# Altium footprint library MPX_____.PcbLib: 19 footprints (part 1 of 2)
Each footprint in its own frame and in the unit in brackets; x right, y up, seen from the top. Pads: shape width x height; smd on the part's side, far side on the other; paste and mask are expansions set on the pad; w line width, h text height; cw(c..) or ccw(c..) is an arc to the next point about the centre after c.
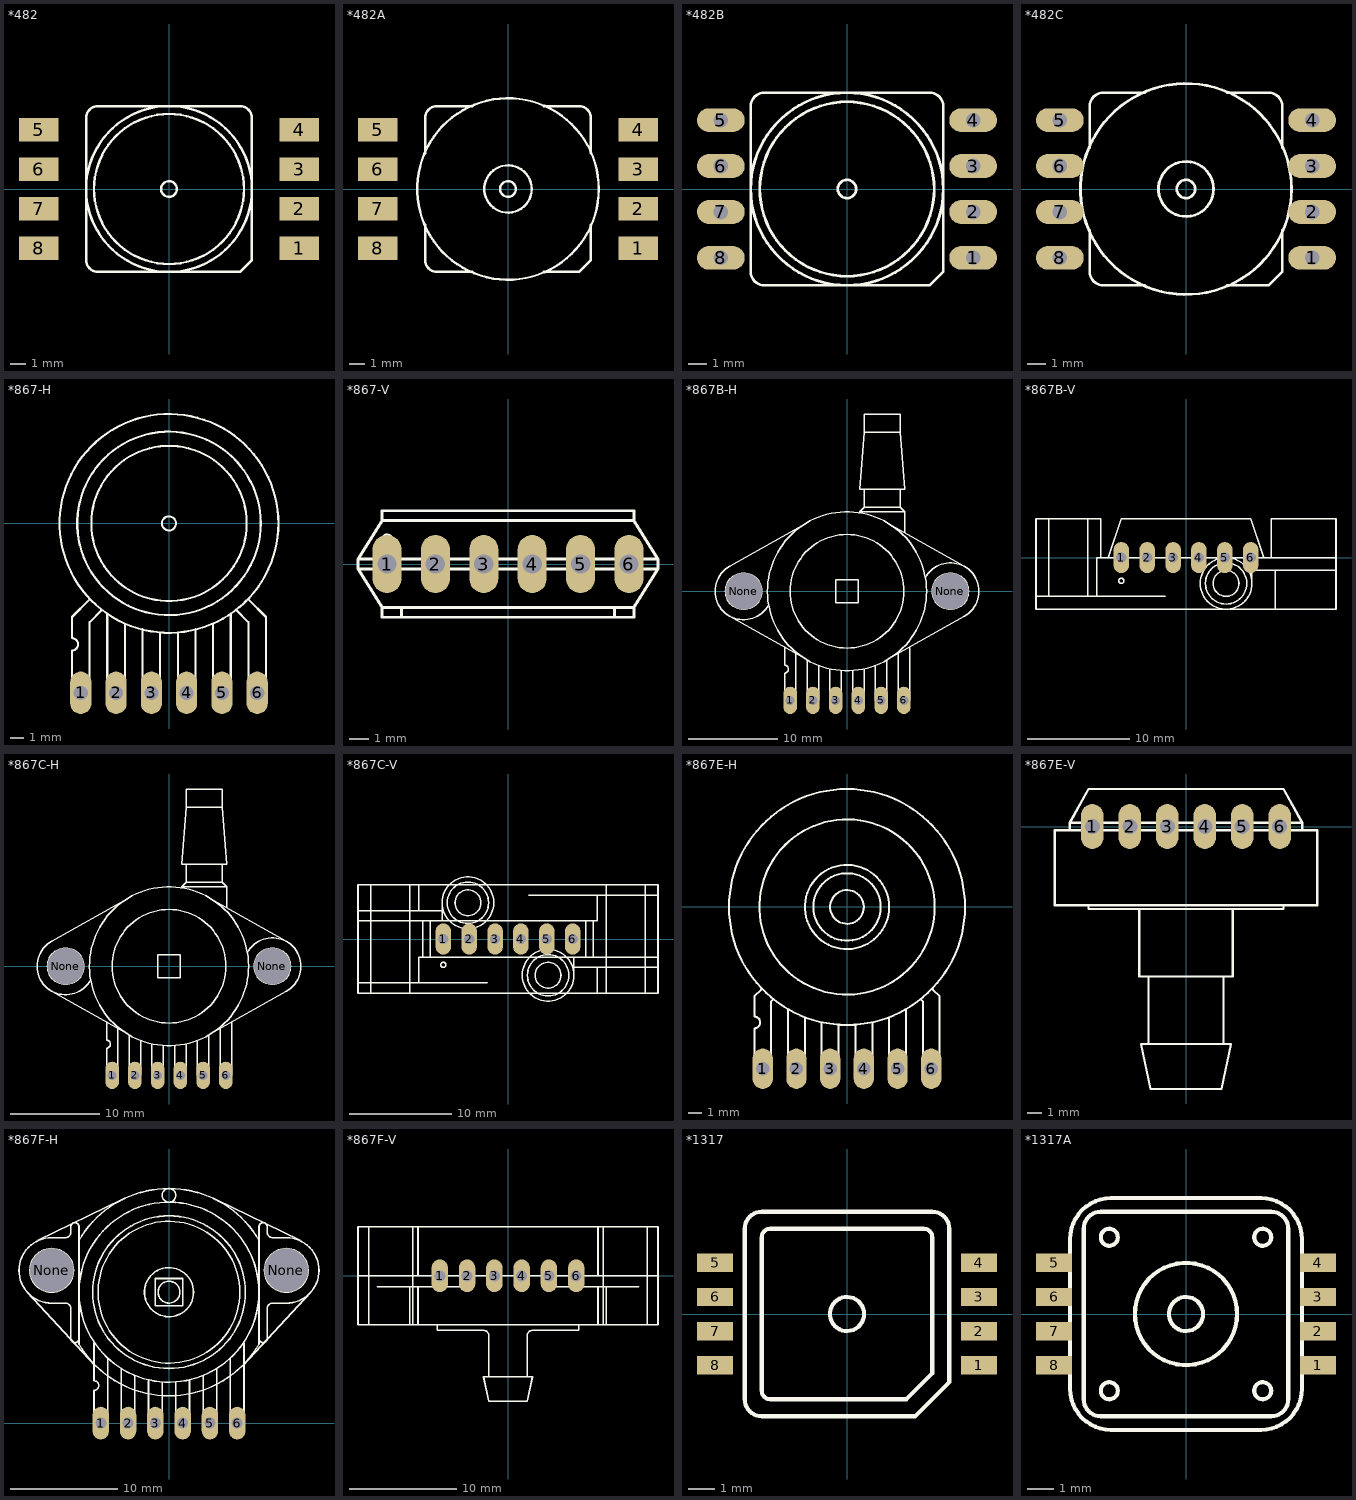
[diagram p0: the footprints below, top view; thin cyan lines are the x and y axes]

## *482 [mil]
pads (8):
  rect 100x60 smd: 1(330,-150) 2(330,-50) 3(330,50) 4(330,150) 5(-330,150) 6(-330,50) 7(-330,-50) 8(-330,-150)
Top Overlay:
  circle w6: c0,0 r190
  circle w6: c0,0 r20
  circle w6: c0,0 r210
  lines w6: -210,-180 ccw(c-180,-180) -180,-210 180,-210 210,-180 210,180 ccw(c180,180) 180,210 -180,210 ccw(c-180,180) -210,180 -210,-180

## *482A [mil]
pads (8):
  rect 100x60 smd: 1(330,-150) 2(330,-50) 3(330,50) 4(330,150) 5(-330,150) 6(-330,50) 7(-330,-50) 8(-330,-150)
Top Overlay:
  circle w6: c0,0 r20
  circle w6: c0,0 r230
  circle w6: c0,0 r60
  lines w6: -210,-90 -210,-180 ccw(c-180,-180) -180,-210 -90,-210 ; -210,90 -210,180 cw(c-180,180) -180,210 -90,210 ; 90,-210 180,-210 210,-180 210,-90 ; 90,210 180,210 cw(c180,180) 210,180 210,90

## *482B [mil]
pads (8):
  oval 104x52 hole 32: 1(275,-150) 2(275,-50) 3(275,50) 4(275,150) 5(-275,150) 6(-275,50) 7(-275,-50) 8(-275,-150)
Top Overlay:
  circle w6: c0,0 r210
  circle w6: c0,0 r20
  circle w6: c0,0 r190
  lines w6: -210,-180 ccw(c-180,-180) -180,-210 180,-210 210,-180 210,180 ccw(c180,180) 180,210 -180,210 ccw(c-180,180) -210,180 -210,-180

## *482C [mil]
pads (8):
  oval 104x52 hole 32: 1(275,-150) 2(275,-50) 3(275,50) 4(275,150) 5(-275,150) 6(-275,50) 7(-275,-50) 8(-275,-150)
Top Overlay:
  circle w6: c0,0 r20
  circle w6: c0,0 r230
  circle w6: c0,0 r60
  lines w6: -210,-90 -210,-180 ccw(c-180,-180) -180,-210 -90,-210 ; -210,90 -210,180 cw(c-180,180) -180,210 -90,210 ; 90,-210 180,-210 210,-180 210,-90 ; 90,210 180,210 cw(c180,180) 210,180 210,90

## *867-H [mil]
pads (6):
  oval 60x120 hole 40: 1(-250,-480) 2(-150,-480) 3(-50,-480) 4(50,-480) 5(150,-480) 6(250,-480)
Top Overlay:
  circle w6: c0,0 r310
  circle w6: c0,0 r260
  circle w6: c0,0 r20
  circle w6: c0,0 r220
  lines w6: -225,-215 -275,-265 -275,-325 cw(c-275,-342.5) -275,-360 -275,-480 -225,-480 -225,-280 -190,-245 ; -175,-255 -175,-480 -125,-480 -125,-285 ; -75,-300 -75,-480 -25,-480 -25,-310 ; 25,-310 25,-480 75,-480 75,-300 ; 125,-285 125,-480 175,-480 175,-255 ; 190,-245 225,-280 225,-480 275,-480 275,-265 225,-215

## *867-V [mil]
pads (6):
  oval 60x120 hole 40: 1(-250,0) 2(-150,0) 3(-50,0) 4(50,0) 5(150,0) 6(250,0)
Top Overlay:
  circle w6: c-250,50 r10
  lines w6: -310,-10 -310,10 ; -310,-10 310,-10 ; -310,-10 -260,-90 ; -310,10 310,10 ; -310,10 -260,90 ; -260,-90 -260,-110 -220,-110 ; -260,-90 -220,-90 ; -260,90 -260,110 260,110 260,90 ; -260,90 260,90 ; -220,-110 220,-110 ; -220,-110 -220,-90 ; -220,-90 220,-90 ; 220,-110 260,-110 260,-90 ; 220,-110 220,-90 ; 220,-90 260,-90 ; 260,-90 310,-10 ; 260,90 310,10 ; 310,-10 310,10

## *867B-H [mil]
pads (8):
  oval 60x120 hole 40: 1(-250,-480) 2(-150,-480) 3(-50,-480) 4(50,-480) 5(150,-480) 6(250,-480)
  round 160 hole 160 unplated: None(-455,0) None(455,0)
Top Overlay:
  circle w6: c-455,0 r80
  circle w6: c455,0 r80
  lines w6: -515.75,109.59 ccw(c-455,0) -515.75,-109.59 ccw(c-455,0) -345.41,-60.75 ; -515,-110 -180,-300 ; -515,110 -180,300 ; -344.94,-60.35 ccw(c0,0.47) -180.4,-299.76 ; -344.81,-61.11 cw(c0,-0.31) -180.33,299.8 ; -275,-245 -275,-325 cw(c-275,-342.5) -275,-360 -275,-480 -225,-480 -225,-275 ; -180.19,-299.89 ccw(c0,0) 180.19,-299.89 ; -180.19,299.89 cw(c0,0) 180.19,299.89 ; -175,-305 -175,-480 -125,-480 -125,-330 ; -75,-345 -75,-480 -25,-480 -25,-350 ; 25,-350 25,-480 75,-480 75,-345 ; 55,345 55,350 ; 125,-330 125,-480 175,-480 175,-305 ; 180,-300 515,-110 ; 180,300 515,110 ; 180.33,-299.8 ccw(c0,0.31) 344.81,61.11 ; 180.4,299.76 cw(c0,-0.47) 344.94,60.35 ; 225,-275 225,-480 275,-480 275,-245 ; 255,260 255,350 ; 345.41,60.75 cw(c455,0) 515.75,109.59 cw(c455,0) 515.75,-109.59 ; 55,350 75,370 ; 55,350 255,350 ; 75,370 235,370 ; 75,370 75,450 ; 75,450 235,450 ; 75,450 55,450 75,700 ; 75,700 75,780 235,780 235,700 ; 75,700 235,700 ; 235,370 255,350 ; 235,370 235,450 ; 235,450 255,450 235,700 ; -50,-50 -50,50 50,50 50,-50 -50,-50 ; 0,-250 cw(c0,0) 0,250 cw(c0,0) 0,-250

## *867B-V [mil]
pads (6):
  oval 60x120 hole 40: 1(-250,0) 2(-150,0) 3(-50,0) 4(50,0) 5(150,0) 6(250,0)
Top Overlay:
  circle w6: c-250,-90 r10
  lines w6: -80,-150 -345,-150 ; -580,-150 -530,-150 ; -580,-150 -580,150 -530,150 ; -580,-150 -580,-200 345,-200 ; -530,-150 -530,150 ; -530,-150 -380,-150 ; -530,150 -380,150 ; -380,-150 -380,150 ; -380,-150 -345,-150 ; -380,150 -330,150 ; -345,-150 -345,0 -330,0 ; -330,0 -330,150 ; -330,0 -300,0 ; -330,0 -330,150 ; -300,0 -250,150 250,150 300,0 ; -300,0 255,0 ; 255,-100 cw(c155,-100) 55,-100 cw(c155,-100) 255,-100 ; 255,-100 255,-50 ; 255,-50 345,-50 ; 255,-50 255,0 ; 255,0 300,0 ; 300,0 330,0 ; 330,0 330,150 ; 330,0 580,0 ; 330,0 330,150 ; 330,150 580,150 580,0 ; 345,-200 345,-50 ; 345,-200 580,-200 580,-50 ; 345,-50 580,-50 ; 580,-50 580,0 ; 75,-100 ccw(c155,-100) 235,-100 ccw(c155,-100) 75,-100 ; 105,-100 ccw(c155,-100) 205,-100 ccw(c155,-100) 105,-100

## *867C-H [mil]
pads (8):
  oval 60x120 hole 40: 1(-250,-480) 2(-150,-480) 3(-50,-480) 4(50,-480) 5(150,-480) 6(250,-480)
  round 160 hole 160 unplated: None(-455,0) None(455,0)
Top Overlay:
  circle w6: c-455,0 r80
  circle w6: c455,0 r80
  lines w6: -515.75,109.59 ccw(c-455,0) -515.75,-109.59 ccw(c-455,0) -345.41,-60.75 ; -515,-110 -180,-300 ; -515,110 -180,300 ; -344.94,-60.35 ccw(c0,0.47) -180.4,-299.76 ; -344.81,-61.11 cw(c0,-0.31) -180.33,299.8 ; -275,-245 -275,-325 cw(c-275,-342.5) -275,-360 -275,-480 -225,-480 -225,-275 ; -180.19,-299.89 ccw(c0,0) 180.19,-299.89 ; -180.19,299.89 cw(c0,0) 180.19,299.89 ; -175,-305 -175,-480 -125,-480 -125,-330 ; -75,-345 -75,-480 -25,-480 -25,-350 ; 25,-350 25,-480 75,-480 75,-345 ; 55,345 55,350 ; 125,-330 125,-480 175,-480 175,-305 ; 180,-300 515,-110 ; 180,300 515,110 ; 180.33,-299.8 ccw(c0,0.31) 344.81,61.11 ; 180.4,299.76 cw(c0,-0.47) 344.94,60.35 ; 225,-275 225,-480 275,-480 275,-245 ; 255,260 255,350 ; 345.41,60.75 cw(c455,0) 515.75,109.59 cw(c455,0) 515.75,-109.59 ; 55,350 75,370 ; 55,350 255,350 ; 75,370 235,370 ; 75,370 75,450 ; 75,450 235,450 ; 75,450 55,450 75,700 ; 75,700 75,780 235,780 235,700 ; 75,700 235,700 ; 235,370 255,350 ; 235,370 235,450 ; 235,450 255,450 235,700 ; -50,-50 -50,50 50,50 50,-50 -50,-50 ; 0,-250 cw(c0,0) 0,250 cw(c0,0) 0,-250
Bottom Overlay:
  lines w6: -255,260 -255,350 ; -55,345 -55,350 ; -255,350 -235,370 ; -255,350 -55,350 ; -235,370 -75,370 ; -235,370 -235,450 ; -235,450 -255,450 -235,700 ; -235,450 -75,450 ; -235,700 -235,780 -75,780 -75,700 ; -235,700 -75,700 ; -75,370 -55,350 ; -75,370 -75,450 ; -75,450 -55,450 -75,700

## *867C-V [mil]
pads (6):
  oval 60x120 hole 40: 1(-250,0) 2(-150,0) 3(-50,0) 4(50,0) 5(150,0) 6(250,0)
Top Overlay:
  circle w6: c-250,-100 r10
  lines w5: -530,-210 -530,210 ; -380,-210 -380,210 ; 380,-210 380,210 ; 530,-210 530,210
  lines w6: -80,-170 -340,-170 ; 80,170 340,170 ; -580,-170 -340,-170 ; -580,-170 -580,70 ; -580,-170 -580,-210 -530,-210 -380,-210 345,-210 ; -580,70 -580,110 ; -580,70 -330,70 ; -580,110 -345,110 ; -580,110 -580,210 -530,210 -380,210 -345,210 ; -345,110 -345,210 ; -345,110 -255,110 ; -345,210 380,210 530,210 580,210 580,170 ; -340,-170 -345,-170 -345,-70 -330,-70 ; -330,-70 -330,0 ; -330,-70 -300,-70 ; -330,-70 -330,0 ; -330,0 -330,70 ; -330,0 -330,70 ; -330,70 -300,70 ; -300,-70 -300,70 ; -300,-70 255,-70 ; -300,70 -255,70 ; -255,70 -255,110 ; -255,70 300,70 ; -255,110 -255,140 ; -255,140 cw(c-155,140) -55,140 cw(c-155,140) -255,140 ; 255,-140 cw(c155,-140) 55,-140 cw(c155,-140) 255,-140 ; 255,-140 255,-110 ; 255,-110 345,-110 ; 255,-110 255,-70 ; 255,-70 300,-70 ; 300,-70 300,70 ; 300,-70 330,-70 ; 300,70 330,70 ; 330,-70 330,0 ; 330,-70 580,-70 ; 330,-70 330,0 ; 330,0 330,70 ; 330,0 330,70 ; 330,70 345,70 345,170 340,170 ; 340,170 580,170 ; 345,-210 345,-110 ; 345,-210 380,-210 530,-210 580,-210 580,-110 ; 345,-110 580,-110 ; 580,-110 580,-70 ; 580,-70 580,170 ; -235,140 cw(c-155,140) -75,140 cw(c-155,140) -235,140 ; -205,140 cw(c-155,140) -105,140 cw(c-155,140) -205,140 ; 75,-140 ccw(c155,-140) 235,-140 ccw(c155,-140) 75,-140 ; 105,-140 ccw(c155,-140) 205,-140 ccw(c155,-140) 105,-140

## *867E-H [mil]
pads (6):
  oval 60x120 hole 40: 1(-250,-480) 2(-150,-480) 3(-50,-480) 4(50,-480) 5(150,-480) 6(250,-480)
Top Overlay:
  circle w6: c0,0 r50
  circle w6: c0,0 r100
  circle w6: c0,0 r125
  circle w6: c0,0 r350
  circle w6: c0,0 r260
  lines w6: -255,-245 -275,-265 -275,-325 cw(c-275,-342.5) -275,-360 -275,-480 -225,-480 -225,-280 -220,-275 ; -175,-305 -175,-480 -125,-480 -125,-330 ; -75,-345 -75,-480 -25,-480 -25,-350 ; 25,-350 25,-480 75,-480 75,-345 ; 125,-330 125,-480 175,-480 175,-305 ; 220,-275 225,-280 225,-480 275,-480 275,-265 255,-245

## *867E-V [mil]
pads (6):
  oval 60x120 hole 40: 1(-250,0) 2(-150,0) 3(-50,0) 4(50,0) 5(150,0) 6(250,0)
Top Overlay:
  lines w6: -310,-10 -350,-10 -350,-210 -260,-210 ; -310,-10 310,-10 ; -310,-10 -310,10 ; -310,10 -260,100 260,100 310,10 ; -310,10 310,10 ; -260,-210 -260,-220 -125,-220 ; -260,-210 260,-210 ; -125,-220 -125,-400 -100,-400 ; -125,-220 125,-220 ; -100,-580 -120,-580 -95,-700 95,-700 120,-580 100,-580 ; -100,-580 100,-580 ; -100,-580 -100,-400 ; -100,-400 100,-400 ; 100,-580 100,-400 ; 100,-400 125,-400 125,-220 ; 125,-220 260,-220 260,-210 ; 260,-210 350,-210 350,-10 310,-10 ; 310,-10 310,10

## *867F-H [mil]
pads (8):
  oval 60x120 hole 40: 1(-250,0) 2(-150,0) 3(-50,0) 4(50,0) 5(150,0) 6(250,0)
  round 160 hole 160 unplated: None(-430,560) None(430,560)
Top Overlay:
  circle w6: c0,480 r40
  circle w6: c0,480 r90
  circle w5: c0,480 r260
  circle w6: c0,480 r280
  circle w6: c0,835 r25
  circle w6: c0,480 r330
  circle w6: c430,560 r80
  circle w6: c-430,560 r80
  lines w6: -520,480 -270,210 ; -480,670 -170,820 ; -275,295 -275,155 cw(c-275,137.5) -275,120 -275,0 -225,0 -225,235 ; -175,200 -175,0 -125,0 -125,175 ; -75,155 -75,0 -25,0 -25,150 ; -0.91,100 cw(c-0.91,480) -330,290 -330,310 ; -0.91,860 ccw(c-0.91,480) -330,670 ; 0.91,100 ccw(c0.91,480) 330,290 330,310 ; 0.91,860 cw(c0.91,480) 330,670 ; 25,150 25,0 75,0 75,155 ; 125,175 125,0 175,0 175,200 ; 170,820 480,670 ; 225,235 225,0 275,0 275,295 ; 270,210 520,480 ; -330,310 cw(c-345,310) -360,310 -360,420 ccw(c-380,420) -380,440 -430,440 cw(c-430,560) -430,680 -380,680 ccw(c-380,700) -360,700 -360,720 cw(c-345,720) -330,720 -330,670 ; -330,310 -330,670 ; 330,310 ccw(c345,310) 360,310 360,420 cw(c380,420) 380,440 430,440 ccw(c430,560) 430,680 380,680 cw(c380,700) 360,700 360,720 ccw(c345,720) 330,720 330,670 ; 330,310 330,670 ; -50,430 -50,530 50,530 50,430 -50,430

## *867F-V [mil]
pads (6):
  oval 60x120 hole 40: 1(-250,0) 2(-150,0) 3(-50,0) 4(50,0) 5(150,0) 6(250,0)
Top Overlay:
  lines w5: -510,-180 -510,180 ; -350,-180 -350,180 ; 350,-180 350,180 ; 510,-180 510,180
  lines w6: -480,-40 -360,-40 ; -170,-40 -330,-40 ; 170,-40 330,-40 ; 480,-40 360,-40 ; -550,0 -550,-180 -510,-180 -360,-180 ; -550,0 -330,0 ; -550,0 -550,180 -510,180 -350,180 -330,180 ; -360,-180 -350,-180 -330,-180 ; -360,-180 -360,-40 ; -360,-40 -330,-40 ; -330,-180 -260,-180 ; -330,-180 -330,-40 ; -330,0 330,0 ; -330,0 -330,180 ; -330,180 330,180 ; -260,-180 260,-180 ; -260,-180 -260,-200 -90,-200 cw(c-90,-220) -70,-220 -70,-370 ; -70,-370 -90,-370 -70,-460 70,-460 90,-370 70,-370 ; -70,-370 70,-370 ; 70,-370 70,-220 cw(c90,-220) 90,-200 260,-200 260,-180 ; 260,-180 330,-180 ; 330,-180 350,-180 360,-180 ; 330,-180 330,-40 ; 330,-40 360,-40 ; 330,0 550,0 ; 330,0 330,180 ; 330,180 350,180 510,180 550,180 550,0 ; 360,-180 510,-180 550,-180 550,0 ; 360,-180 360,-40

## *1317 [mil]
pads (8):
  rect 53x27 smd: 1(193.5,-75) 2(193.5,-25) 3(193.5,25) 4(193.5,75) 5(-193.5,75) 6(-193.5,25) 7(-193.5,-25) 8(-193.5,-75)
Top Overlay:
  circle w6: c0,0 r25
  lines w6: -150,-125 ccw(c-125,-125) -125,-150 100,-150 150,-100 150,125 ccw(c125,125) 125,150 -125,150 ccw(c-125,125) -150,125 -150,-125 ; -125,-112.5 ccw(c-112.5,-112.5) -112.5,-125 87.5,-125 125,-87.5 125,112.5 ccw(c112.5,112.5) 112.5,125 -112.5,125 ccw(c-112.5,112.5) -125,112.5 -125,-112.5

## *1317A [mil]
pads (8):
  rect 53x27 smd: 1(193.5,-75) 2(193.5,-25) 3(193.5,25) 4(193.5,75) 5(-193.5,75) 6(-193.5,25) 7(-193.5,-25) 8(-193.5,-75)
Top Overlay:
  circle w6: c112.5,112.5 r12.5
  circle w6: c-112.5,112.5 r12.5
  circle w6: c-112.5,-112.5 r12.5
  circle w6: c112.5,-112.5 r12.5
  circle w6: c0,0 r75
  circle w6: c0,0 r25
  lines w6: -170,-110 ccw(c-110,-110) -110,-170 110,-170 ccw(c110,-110) 170,-110 170,110 ccw(c110,110) 110,170 -110,170 ccw(c-110,110) -170,110 -170,-110 ; -150,-125 ccw(c-125,-125) -125,-150 125,-150 ccw(c125,-125) 150,-125 150,125 ccw(c125,125) 125,150 -125,150 ccw(c-125,125) -150,125 -150,-125